# Altium schematic symbol library Modules.SCHLIB: 3 symbols
Pins are listed as number, name and electrical type; pins without a type are passive.

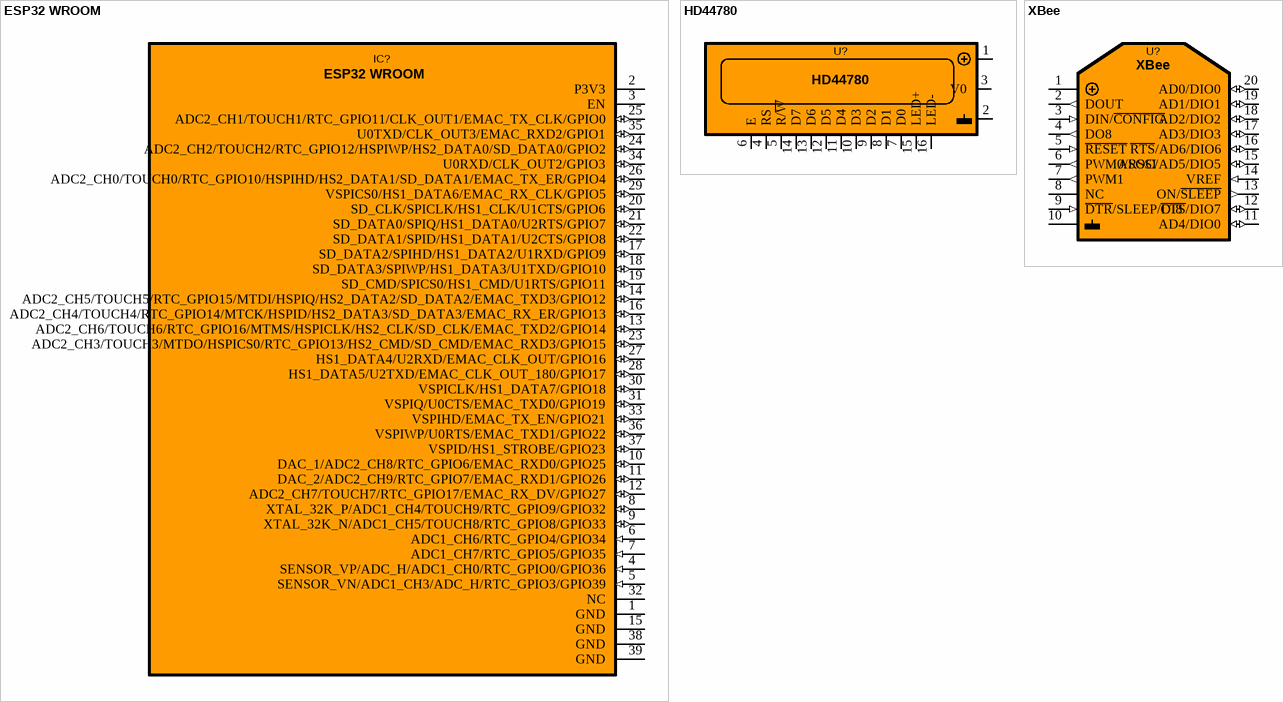
[diagram p0: symbols ESP32 WROOM to XBee]

## ESP32 WROOM
designator IC?
General symbol for the ESP32 module
pins: 1 GND, 2 P3V3, 3 EN, 4 SENSOR_VP/ADC_H/ADC1_CH0/RTC_GPIO0/GPIO36 (in), 5 SENSOR_VN/ADC1_CH3/ADC_H/RTC_GPIO3/GPIO39 (in), 6 ADC1_CH6/RTC_GPIO4/GPIO34 (in), 7 ADC1_CH7/RTC_GPIO5/GPIO35 (in), 8 XTAL_32K_P/ADC1_CH4/TOUCH9/RTC_GPIO9/GPIO32 (io), 9 XTAL_32K_N/ADC1_CH5/TOUCH8/RTC_GPIO8/GPIO33 (io), 10 DAC_1/ADC2_CH8/RTC_GPIO6/EMAC_RXD0/GPIO25 (io), 11 DAC_2/ADC2_CH9/RTC_GPIO7/EMAC_RXD1/GPIO26 (io), 12 ADC2_CH7/TOUCH7/RTC_GPIO17/EMAC_RX_DV/GPIO27 (io), 13 ADC2_CH6/TOUCH6/RTC_GPIO16/MTMS/HSPICLK/HS2_CLK/SD_CLK/EMAC_TXD2/GPIO14 (io), 14 ADC2_CH5/TOUCH5/RTC_GPIO15/MTDI/HSPIQ/HS2_DATA2/SD_DATA2/EMAC_TXD3/GPIO12 (io), 15 GND, 16 ADC2_CH4/TOUCH4/RTC_GPIO14/MTCK/HSPID/HS2_DATA3/SD_DATA3/EMAC_RX_ER/GPIO13 (io), 17 SD_DATA2/SPIHD/HS1_DATA2/U1RXD/GPIO9 (io), 18 SD_DATA3/SPIWP/HS1_DATA3/U1TXD/GPIO10 (io), 19 SD_CMD/SPICS0/HS1_CMD/U1RTS/GPIO11 (io), 20 SD_CLK/SPICLK/HS1_CLK/U1CTS/GPIO6 (io), 21 SD_DATA0/SPIQ/HS1_DATA0/U2RTS/GPIO7 (io), 22 SD_DATA1/SPID/HS1_DATA1/U2CTS/GPIO8 (io), 23 ADC2_CH3/TOUCH3/MTDO/HSPICS0/RTC_GPIO13/HS2_CMD/SD_CMD/EMAC_RXD3/GPIO15 (io), 24 ADC2_CH2/TOUCH2/RTC_GPIO12/HSPIWP/HS2_DATA0/SD_DATA0/GPIO2 (io), 25 ADC2_CH1/TOUCH1/RTC_GPIO11/CLK_OUT1/EMAC_TX_CLK/GPIO0 (io), 26 ADC2_CH0/TOUCH0/RTC_GPIO10/HSPIHD/HS2_DATA1/SD_DATA1/EMAC_TX_ER/GPIO4 (io), 27 HS1_DATA4/U2RXD/EMAC_CLK_OUT/GPIO16 (io), 28 HS1_DATA5/U2TXD/EMAC_CLK_OUT_180/GPIO17 (io), 29 VSPICS0/HS1_DATA6/EMAC_RX_CLK/GPIO5 (io), 30 VSPICLK/HS1_DATA7/GPIO18 (io), 31 VSPIQ/U0CTS/EMAC_TXD0/GPIO19 (io), 32 NC, 33 VSPIHD/EMAC_TX_EN/GPIO21 (io), 34 U0RXD/CLK_OUT2/GPIO3 (io), 35 U0TXD/CLK_OUT3/EMAC_RXD2/GPIO1 (io), 36 VSPIWP/U0RTS/EMAC_TXD1/GPIO22 (io), 37 VSPID/HS1_STROBE/GPIO23 (io), 38 GND, 39 GND

## HD44780
designator U?
General symbol for an LCD module
pins: 1 VCC (power), 2 VDD (power), 3 V0, 4 RS, 5 R/~{W}, 6 E, 7 D0, 8 D1, 9 D2, 10 D3, 11 D4, 12 D5, 13 D6, 14 D7, 15 LED+ (power), 16 LED- (power)

## XBee
designator U?
General symbol for an XBee radio module
pins: 1 VCC, 2 DOUT (out), 3 DIN/~{CONFIG} (in), 4 DO8 (out), 5 ~{RESET} (in), 6 PWM0/RSSI (out), 7 PWM1 (out), 8 NC, 9 ~{DTR}/SLEEP/DI8 (in), 10, 11 AD4/DIO0 (io), 12 ~{CTS}/DIO7 (io), 13 ON/~{SLEEP} (out), 14 VREF (in), 15 ASOC/AD5/DIO5 (io), 16 ~{RTS}/AD6/DIO6 (io), 17 AD3/DIO3 (io), 18 AD2/DIO2 (io), 19 AD1/DIO1 (io), 20 AD0/DIO0 (io)